# EAGLE library part MAX7219ADAPTER (library MTS-OTR_Custom)
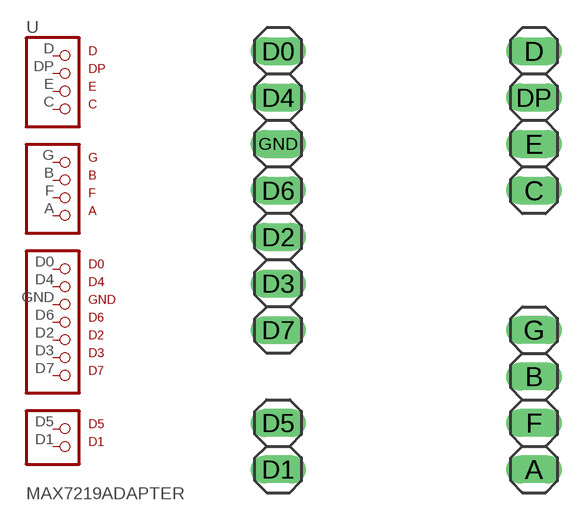
[diagram p32: symbol with the pads of MAX7219ADAPTER; footprint MAX7219ADAPTER]

Designator prefix -

## MAX7219ADAPTER  [MAX7219ADAPTER]
A  A  pas
B  B  pas
C  C  pas
D  D  pas
D0  D0  pas
D1  D1  pas
D2  D2  pas
D3  D3  pas
D4  D4  pas
D5  D5  pas
D6  D6  pas
D7  D7  pas
DP  DP  pas
E  E  pas
F  F  pas
G  G  pas
GND  GND  pas

## Footprint MAX7219ADAPTER (pad centres in mm)
drill 1.016 long: A 8.89,-13.97; B 8.89,-8.89; C 8.89,1.27; D 8.89,8.89; D0 -5.08,8.89; D1 -5.08,-13.97; D2 -5.08,-1.27; D3 -5.08,-3.81; D4 -5.08,6.35; D5 -5.08,-11.43; D6 -5.08,1.27; D7 -5.08,-6.35; DP 8.89,6.35; E 8.89,3.81; F 8.89,-11.43; G 8.89,-6.35; GND -5.08,3.81